# Altium schematic symbol library Schlib_Coilcraft.SchLib: 4 symbols
Pins are listed as number, name and electrical type; pins without a type are passive.

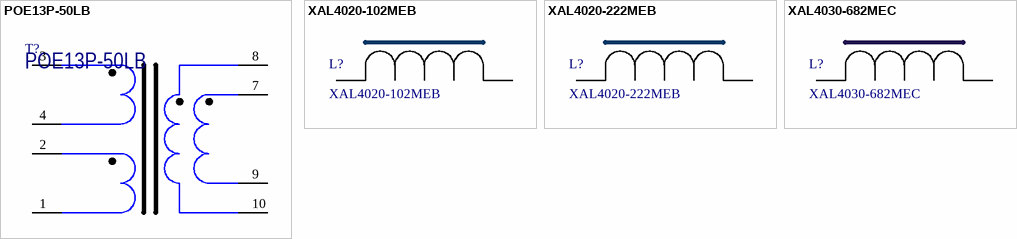
[diagram p0: symbols POE13P-50LB to XAL4030-682MEC]

## POE13P-50LB
designator T?
Flyback transformers for PoE applications (input of 36–72 V); Manufacturer: Coilcraft; Part Number: POE13P-50LB; Package: Non-standart (13.46 x 17.75 x 12.7 mm)
footprint POE13P-50LB
pins: 1, 2, 3, 4, 7, 8, 9, 10

## XAL4020-102MEB
designator L?
Shielded SMD Power Inductors; Manufacturer: Coilcraft Inc.; RDC: 0.014 Ohm; SRF Min: 79 MHz; Irms  Max: 6.7 A; Isat  Typ: 8.7 A; Inductance @ 100 kHz: 1 µH; Part Number: XAL4020-102MEB; Package: 4.0 x 4.0 mm
footprint XAL4020
pins: 1, 2

## XAL4020-222MEB
designator L?
Shielded SMD Power Inductors; Manufacturer: Coilcraft Inc.; RDC: 0.035 Ohm; SRF Min: 52 MHz; Irms  Max: 5.6 A; Isat  Typ: 4.0 A; Inductance @ 100 kHz: 2.2 µH; Part Number: XAL4020-222MEB; Package: 4.0 x 4.0 mm
footprint XAL4020
pins: 1, 2

## XAL4030-682MEC
designator L?
Shielded SMD Power Inductors; Manufacturer: Coilcraft Inc.; RDC: 0.074 Ohm; SRF Min: 29 MHz; Irms  Max: 3.0 A; Isat  Typ: 3.6 A; Inductance @ 100 kHz: 6.8 µH; Part Number: XAL4030-682MEC; Package: 4.0 x 4.0 mm
footprint XAL4030
pins: 1, 2